# Altium footprint library RES.PcbLib: 21 footprints (part 1 of 2)
Each footprint in its own frame and in the unit in brackets; x right, y up, seen from the top. Pads: shape width x height; smd on the part's side, far side on the other; paste and mask are expansions set on the pad; w line width, h text height; cw(c..) or ccw(c..) is an arc to the next point about the centre after c.
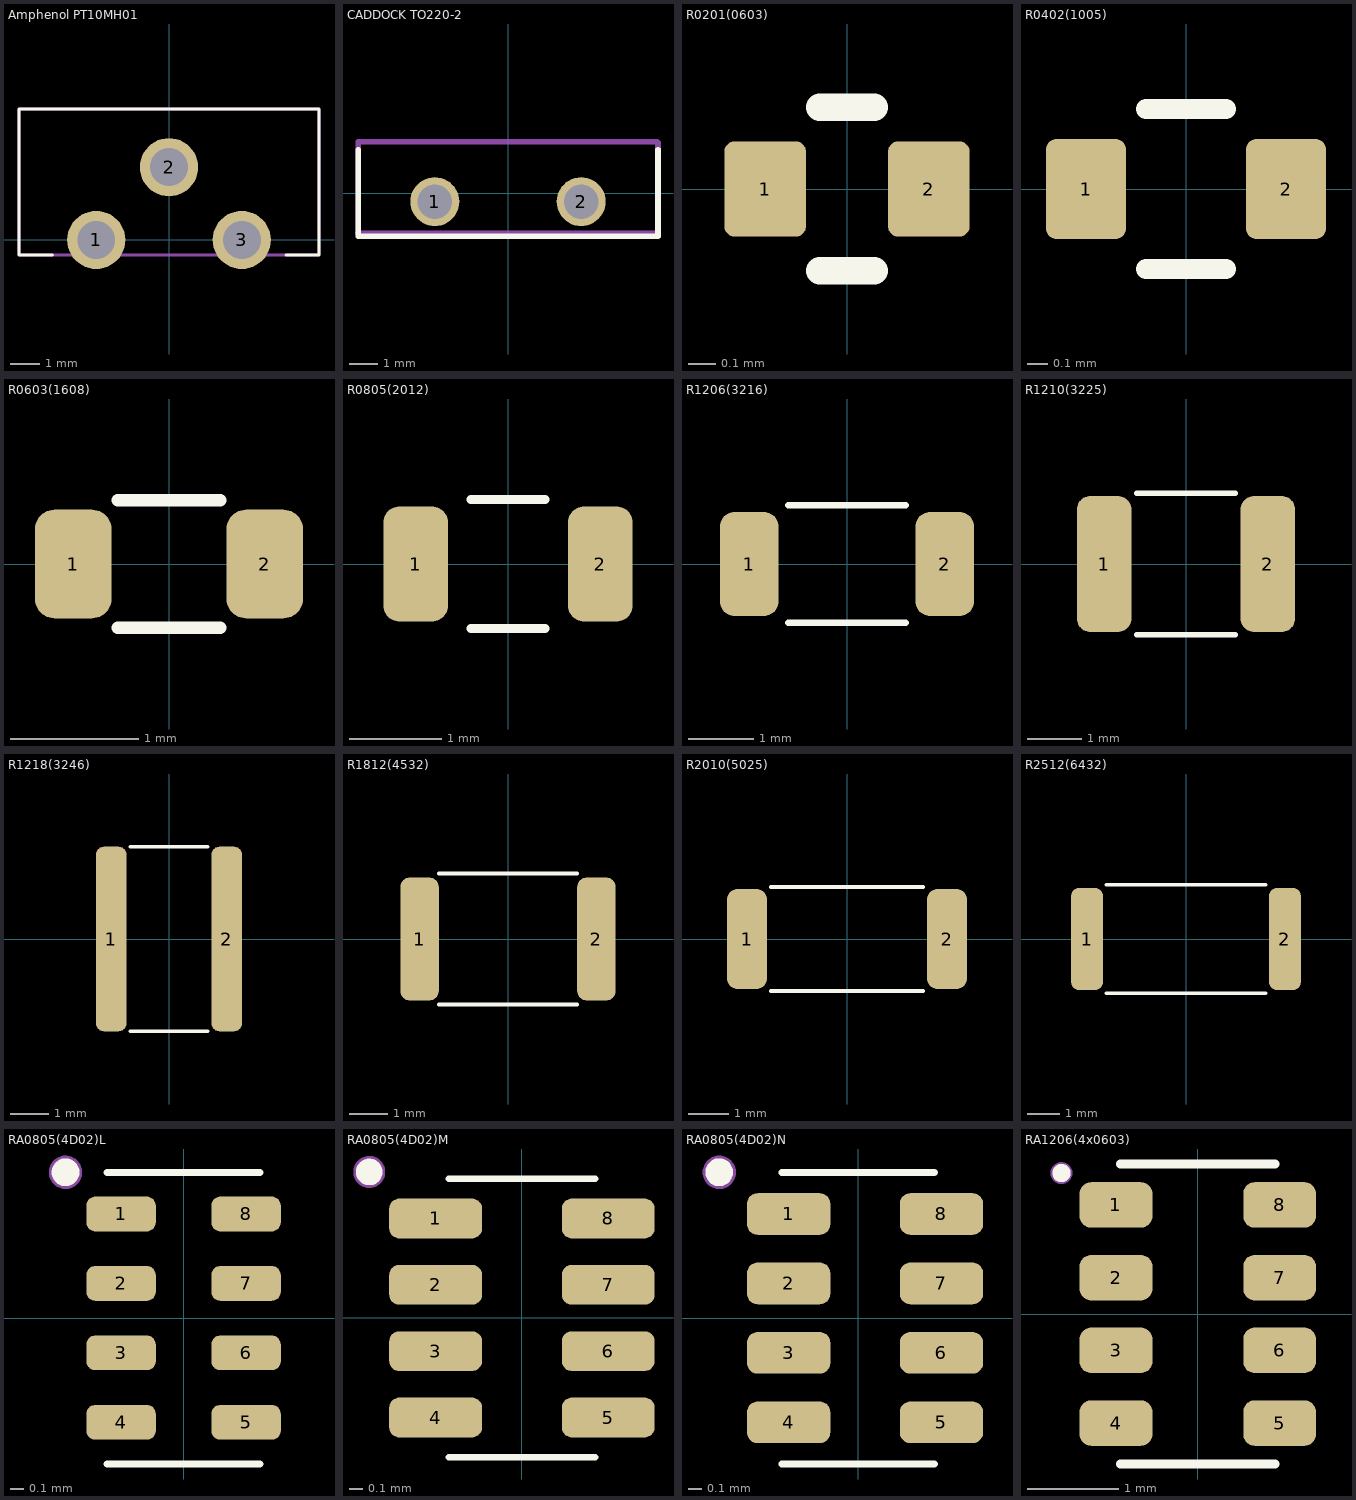
[diagram p0: the footprints below, top view; thin cyan lines are the x and y axes]

## Amphenol PT10MH01 [mm] "POTENTIOMETER; 10mm control/ sensor"
height 12.2
pads (3):
  round 2 hole 1.3: 1(-2.5,0) 2(0,2.5) 3(2.5,0)
Top Overlay:
  lines w0.1: -5.15,-0.52 -4,-0.52 ; -5.15,-0.5 -5.15,4.5 5.15,4.5 5.15,-0.52 4.02,-0.52
Top 3D Body:
  lines w0.1: -5.15,-0.52 -5.15,4.5 5.15,4.5 5.15,-0.52 -5.15,-0.52
3D body "11-PIHER_3D_PT10MH01.STEP": height 12.15, standoff -3.5, extent -5.15,-0.52 5.15,4.5

## CADDOCK TO220-2 [mm] "Caddock resistor TO-220 Style (MP916, MP925, MP930)"
pads (2):
  round 1.7 hole 1.2: 1(-2.54,-0.3) 2(2.54,-0.3)
Top Overlay:
  lines w0.2: -5.2,1.503 -5.2,-1.5 5.205,-1.5 5.205,1.503
Top Assembly:
  lines w0.2: -5.205,-1.397 -5.197,-1.389 -5.197,1.778 5.171,1.778 5.203,1.746 5.203,-1.398 5.202,-1.397 -5.205,-1.397
3D body "User Library-Caddock TO-220 Style (MP916, MP925, MP930).step": height 20.13, standoff -8.83, extent -5.205,-1.397 5.205,1.778

## R0201(0603) [mm]
height 0.35
pads (2):
  rrect25% 0.3x0.35 smd paste-0.1 mask+0.102: 1(-0.3,0) 2(0.3,0)
Top Overlay:
  lines w0.1: -0.1,-0.3 0.1,-0.3 ; -0.1,0.3 0.1,0.3
Top Paste:
  region: -0.285,0.135 -0.315,0.135 -0.339,0.135 -0.383,0.117 -0.417,0.083 -0.435,0.039 -0.435,0.015 -0.435,-0.015 -0.435,-0.039 -0.417,-0.083 -0.383,-0.117 -0.339,-0.135 -0.315,-0.135 -0.285,-0.135 -0.261,-0.135 -0.217,-0.117 -0.183,-0.083 -0.165,-0.039 -0.165,-0.015 -0.165,0.015 -0.165,0.039 -0.183,0.083 -0.217,0.117 -0.261,0.135
  region: 0.285,0.135 0.315,0.135 0.339,0.135 0.383,0.117 0.417,0.083 0.435,0.039 0.435,0.015 0.435,-0.015 0.435,-0.039 0.417,-0.083 0.383,-0.117 0.339,-0.135 0.315,-0.135 0.285,-0.135 0.261,-0.135 0.217,-0.117 0.183,-0.083 0.165,-0.039 0.165,-0.015 0.165,0.015 0.165,0.039 0.183,0.083 0.217,0.117 0.261,0.135
Top Solder:
  region: -0.425,0.25 0.425,0.25 0.45,0.25 0.496,0.231 0.531,0.196 0.55,0.15 0.55,0.125 0.55,-0.125 0.55,-0.15 0.531,-0.196 0.496,-0.231 0.45,-0.25 0.425,-0.25 -0.425,-0.25 -0.45,-0.25 -0.496,-0.231 -0.531,-0.196 -0.55,-0.15 -0.55,-0.125 -0.55,0.125 -0.55,0.15 -0.531,0.196 -0.496,0.231 -0.45,0.25
3D body "SMD R-0201.STEP": height 0.34, standoff 0, extent -0.34,-0.165 0.34,0.165

## R0402(1005) [mm]
height 0.35
pads (2):
  rrect25% 0.4x0.5 smd mask+0.102: 1(-0.5,0) 2(0.5,0)
Top Overlay:
  lines w0.1: -0.2,-0.4 0.2,-0.4 ; -0.2,0.4 0.2,0.4
3D body "SMD R-0402.STEP": height 0.35, standoff 0, extent -0.5,-0.25 0.5,0.25

## R0603(1608) [mm]
height 0.45
pads (2):
  rrect50% 0.6x0.85 smd: 1(-0.75,0) 2(0.75,0)
Top Overlay:
  lines w0.1: -0.4,-0.5 0.4,-0.5 ; -0.4,0.5 0.4,0.5
3D body "SMD R-0603.STEP": height 0.45, standoff -0.01, extent -0.8,-0.4 0.8,0.4

## R0805(2012) [mm]
height 0.55
pads (2):
  rrect50% 0.7x1.25 smd: 1(-1,0) 2(1,0)
Top Overlay:
  lines w0.1: -0.4,-0.7 0.4,-0.7 ; -0.4,0.7 0.4,0.7
3D body "SMD R-0805.STEP": height 0.6, standoff 0, extent -1,-0.625 1,0.625

## R1206(3216) [mm]
height 0.55
pads (2):
  rrect50% 0.9x1.6 smd mask+0.102: 1(-1.5,0) 2(1.5,0)
Top Overlay:
  lines w0.1: -0.9,-0.9 0.9,-0.9 ; -0.9,0.9 0.9,0.9
3D body "SMD R-1206.STEP": height 0.6, standoff 0, extent -1.6,-0.8 1.6,0.8

## R1210(3225) [mm]
height 0.55
pads (2):
  rrect50% 1x2.5 smd: 1(-1.5,0) 2(1.5,0)
Top Overlay:
  lines w0.1: -0.9,-1.3 0.9,-1.3 ; -0.9,1.3 0.9,1.3
3D body "SMD R-1210.STEP": height 0.6, standoff 0, extent -1.6,-1.25 1.6,1.25

## R1218(3246) [mm]
height 0.55
pads (2):
  rrect50% 0.8x4.8 smd: 1(-1.5,0) 2(1.5,0)
Top Overlay:
  lines w0.1: -1,-2.4 1,-2.4 ; -1,2.4 1,2.4
3D body "SMD R-1218.STEP": height 0.85, standoff 0.3, extent -1.6,-2.3 1.6,2.3

## R1812(4532) [mm]
height 0.55
pads (2):
  rrect50% 1x3.2 smd: 1(-2.3,0) 2(2.3,0)
Top Overlay:
  lines w0.1: -1.8,-1.7 1.8,-1.7 ; -1.8,1.7 1.8,1.7
3D body "SMD R-1812.STEP": height 0.6, standoff 0, extent -2.25,-1.6 2.25,1.6

## R2010(5025) [mm]
height 0.55
pads (2):
  rrect50% 1x2.5 smd: 1(-2.5,0) 2(2.5,0)
Top Overlay:
  lines w0.1: -1.9,-1.3 1.9,-1.3 ; -1.9,1.3 1.9,1.3
3D body "SMD R-2010.STEP": height 0.62, standoff 0, extent -2.502,-1.244 2.502,1.246

## R2512(6432) [mm]
height 0.55
pads (2):
  rrect50% 1x3.2 smd: 1(-3.1,0) 2(3.1,0)
Top Overlay:
  lines w0.1: -2.5,-1.7 2.5,-1.7 ; -2.5,1.7 2.5,1.7
3D body "SMD R-2512.STEP": height 0.62, standoff 0, extent -3.16,-1.6 3.16,1.6

## RA0805(4D02)L [mm] "Chip Array, Flat, 8-Leads, Pitch 0.50mm,  Body 2.00x1.00mm,  IPC High Density"
height 0.45
pads (8):
  rrect50% 0.5x0.25 smd: 1(-0.45,0.75) 2(-0.45,0.25) 3(-0.45,-0.25) 4(-0.45,-0.75) 5(0.45,-0.75) 6(0.45,-0.25) 7(0.45,0.25) 8(0.45,0.75)
Top Overlay:
  circle w0.1: c-0.85,1.05 r0.05
  lines w0.05: -0.55,-1.05 0.55,-1.05 ; -0.55,1.05 0.55,1.05
Top Assembly:
  circle w0.12: c-0.85,1.05 r0.06
3D body "RA 741C083 (2x1mm).STEP": height 0.35, standoff -0.03, extent -0.502,-1 0.502,1

## RA0805(4D02)M [mm] "Chip Array, Flat, 8-Leads, Pitch 0.50mm,  Body 2.00x1.00mm,  IPC Medium Density"
height 0.45
pads (8):
  rrect50% 0.7x0.3 smd: 1(-0.65,0.75) 2(-0.65,0.25) 3(-0.65,-0.25) 4(-0.65,-0.75) 5(0.65,-0.75) 6(0.65,-0.25) 7(0.65,0.25) 8(0.65,0.75)
Top Overlay:
  circle w0.1: c-1.15,1.1 r0.05
  lines w0.05: -0.55,-1.05 0.55,-1.05 ; -0.55,1.05 0.55,1.05
Top Assembly:
  circle w0.12: c-1.15,1.1 r0.06
3D body "RA 741C083 (2x1mm).STEP": height 0.35, standoff -0.03, extent -0.502,-1 0.502,1

## RA0805(4D02)N [mm] "Chip Array, Flat, 8-Leads, Pitch 0.50mm,  Body 2.00x1.00mm,  IPC Medium Density"
height 0.45
pads (8):
  rrect50% 0.6x0.3 smd: 1(-0.5,0.75) 2(-0.5,0.25) 3(-0.5,-0.25) 4(-0.5,-0.75) 5(0.6,-0.75) 6(0.6,-0.25) 7(0.6,0.25) 8(0.6,0.75)
Top Overlay:
  circle w0.1: c-1,1.05 r0.05
  lines w0.05: -0.55,-1.05 0.55,-1.05 ; -0.55,1.05 0.55,1.05
Top Assembly:
  circle w0.12: c-1,1.05 r0.06
3D body "RA 741C083 (2x1mm).STEP": height 0.35, standoff -0.03, extent -0.502,-1 0.502,1

## RA1206(4x0603) [mm]
pads (8):
  rrect50% 0.8x0.5 smd: 1(-0.9,1.2) 2(-0.9,0.4) 3(-0.9,-0.4) 4(-0.9,-1.2) 5(0.9,-1.2) 6(0.9,-0.4) 7(0.9,0.4) 8(0.9,1.2)
Top Overlay:
  circle w0.1: c-1.5,1.55 r0.05
  lines w0.1: -0.85,-1.65 0.85,-1.65 ; -0.85,1.65 0.85,1.65
Top Assembly:
  circle w0.12: c-1.5,1.55 r0.06
3D body "SMD R1206-4Way-Var2-1.STEP": height 0.5, standoff 0, extent -0.8,-1.6 0.8,1.6